# EAGLE library part ATTINY167-TSSOP20 (library Neel)
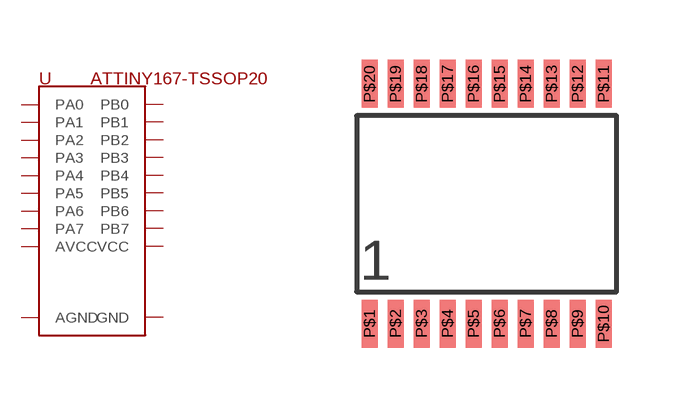
[diagram p59: symbol with the pads of TSSOP-20; footprint TSSOP-20]

Designator prefix U

## ATTINY167-TSSOP20  [TSSOP-20]
P$1  PA0
P$2  PA1
P$3  PA2
P$4  PA3
P$5  AVCC
P$6  AGND
P$7  PA4
P$8  PA5
P$9  PA6
P$10  PA7
P$11  PB7
P$12  PB6
P$13  PB5
P$14  PB4
P$15  VCC
P$16  GND
P$17  PB3
P$18  PB2
P$19  PB1
P$20  PB0

## Footprint TSSOP-20 (pad centres in mm)
smd 0.4 x 1.2: P$1 -2.925,-3; P$2 -2.275,-3; P$3 -1.625,-3; P$4 -0.975,-3; P$5 -0.325,-3; P$6 0.325,-3; P$7 0.975,-3; P$8 1.625,-3; P$9 2.275,-3; P$10 2.925,-3; P$11 2.925,3; P$12 2.275,3; P$13 1.625,3; P$14 0.975,3; P$15 0.325,3; P$16 -0.325,3; P$17 -0.975,3; P$18 -1.625,3; P$19 -2.275,3; P$20 -2.925,3